# Altium schematic symbol library Roatary Switch.SchLib: 1 symbol
Pins are listed as number, name and electrical type; pins without a type are passive.

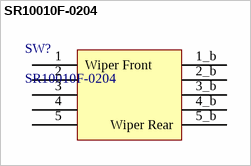
[diagram p0: symbol SR10010F-0204]

## SR10010F-0204
designator SW?
2 pole, 4 throw, rotary switch
footprint SR10010F-0204-20F0B-C7-N
pins: 1 Wiper Front, 1_b, 2, 2_b, 3, 3_b, 4, 4_b, 5, 5_b Wiper Rear